# Altium schematic symbol library BRGTC6.SchLib: 1 symbol
Pins are listed as number, name and electrical type; pins without a type are passive.

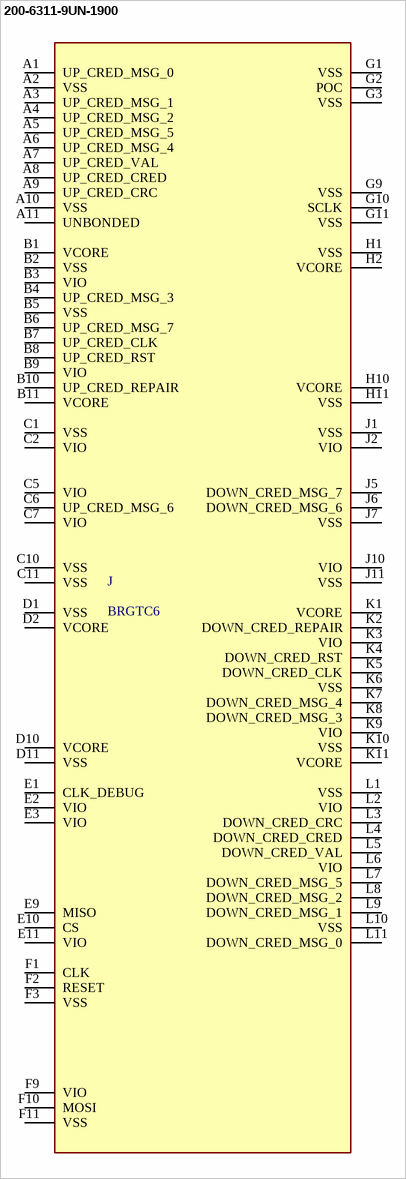
[diagram p0: symbol 200-6311-9UN-1900]

## 200-6311-9UN-1900
designator J, comment BRGTC6
121 _11 x 11_ Pos PGA, ZIF _ZIP_ Socket Gold Through Hole; MF: 3M; MP: 200-6311-9UN-1900; SnapEDA_Link: https://www.snapeda.com/parts/200-6311-9UN-1900/3M%20_TC_/view-part/159310/?ref=snap; Digi-Key_Part_Number: 3M5067-ND; Package: None; Digi-Key_Purchase_URL: https://www.digikey.com/product-detail/en/3m/200-6311-9UN-1900/3M5067-ND/1130121?utm_source=snapeda&utm_medium=aggregator&utm_campaign=symbol; Value: *
footprint 3M_200-6311-9UN-1900
pins: A1 UP_CRED_MSG_0, A2 VSS, A3 UP_CRED_MSG_1, A4 UP_CRED_MSG_2, A5 UP_CRED_MSG_5, A6 UP_CRED_MSG_4, A7 UP_CRED_VAL, A8 UP_CRED_CRED, A9 UP_CRED_CRC, A10 VSS, A11 UNBONDED, B1 VCORE, B2 VSS, B3 VIO, B4 UP_CRED_MSG_3, B5 VSS, B6 UP_CRED_MSG_7, B7 UP_CRED_CLK, B8 UP_CRED_RST, B9 VIO, B10 UP_CRED_REPAIR, B11 VCORE, C1 VSS, C2 VIO, C5 VIO, C6 UP_CRED_MSG_6, C7 VIO, C10 VSS, C11 VSS, D1 VSS, D2 VCORE, D10 VCORE, D11 VSS, E1 CLK_DEBUG, E2 VIO, E3 VIO, E9 MISO, E10 CS, E11 VIO, F1 CLK, F2 RESET, F3 VSS, F9 VIO, F10 MOSI, F11 VSS, G1 VSS, G2 POC, G3 VSS, G9 VSS, G10 SCLK, G11 VSS, H1 VSS, H2 VCORE, H10 VCORE, H11 VSS, J1 VSS, J2 VIO, J5 DOWN_CRED_MSG_7, J6 DOWN_CRED_MSG_6, J7 VSS, J10 VIO, J11 VSS, K1 VCORE, K2 DOWN_CRED_REPAIR, K3 VIO, K4 DOWN_CRED_RST, K5 DOWN_CRED_CLK, K6 VSS, K7 DOWN_CRED_MSG_4, K8 DOWN_CRED_MSG_3, K9 VIO, K10 VSS, K11 VCORE, L1 VSS, L2 VIO, L3 DOWN_CRED_CRC, L4 DOWN_CRED_CRED, L5 DOWN_CRED_VAL, L6 VIO, L7 DOWN_CRED_MSG_5, L8 DOWN_CRED_MSG_2, L9 DOWN_CRED_MSG_1, L10 VSS, L11 DOWN_CRED_MSG_0